# Altium footprint library MainLib.pcblib: 23 footprints (part 2 of 2)
Each footprint in its own frame and in the unit in brackets; x right, y up, seen from the top. Pads: shape width x height; smd on the part's side, far side on the other; paste and mask are expansions set on the pad; w line width, h text height; cw(c..) or ccw(c..) is an arc to the next point about the centre after c.
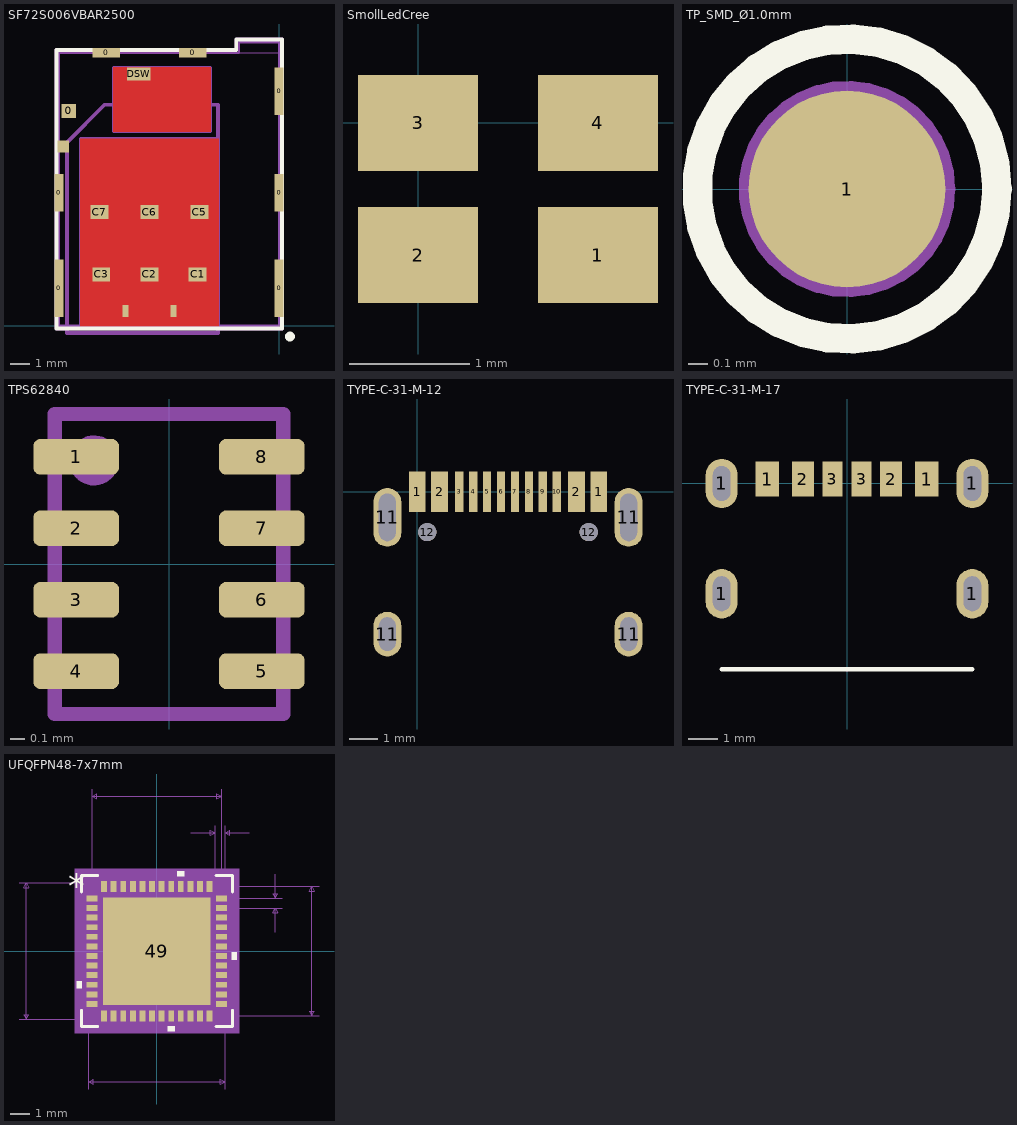
[diagram p1: the footprints below, top view; thin cyan lines are the x and y axes]

## SF72S006VBAR2500 [mm]
pads (18):
  rect 0.45x2.9 smd: 0(-11.175,1.9) 0(0,1.9)
  rect 0.45x1.9 smd: 0(-11.175,6.75) 0(0,6.75)
  rect 0.75x0.7 smd: 0(-10.675,10.9)
  rect 1.4x0.5 smd: 0(-8.78,13.85) 0(-4.38,13.85)
  rect 0.3x0.6 smd: 0(-7.8,0.75) 0(-5.36,0.75)
  rect 0.45x2.4 smd: 0(0,11.9)
  rect 0.9x0.7 smd: C1(-4.14,2.6) C2(-6.58,2.6) C3(-9.02,2.6) C5(-4.04,5.77) C6(-6.58,5.77) C7(-9.12,5.77)
  rect 0.6x0.6 smd: CSW(-10.95,9.1)
  rect 1.2x0.65 smd: DSW(-7.13,12.775)
Top Layer:
  pour cut-out: -10.084,9.5 -3.073,9.5 -3.073,-0.025 -10.084,-0.025
  pour cut-out: -8.407,13.106 -3.48,13.106 -3.48,9.855 -8.407,9.855
Top Overlay:
  lines w0.2: -11.3,-0.15 -11.3,14 -2.175,14 -2.175,14.525 0.15,14.525 0.15,-0.15 -11.3,-0.15
  lines w0.25: 0.443,-0.486 ccw(c0.55,-0.55) 0.462,-0.462
Mechanical 7:
  lines w0.2: -3.124,11.214 -8.852,11.214 -10.77,9.296 -10.77,-0.381 -3.099,-0.381 -3.099,11.214 ; -11.3,-0.15 0.15,-0.15 0.15,14.525 -2.175,14.525 -2.175,14 -11.3,14 -11.3,-0.15
  text ".Designator" at -10.414,12.192 h1.02
Mechanical 13:
  lines w0.1: -11.175,0 -11.175,13.85 -2.025,13.85 -2.025,14.375 0,14.375 0,0 -11.175,0
Mechanical 15:
  lines w0.05: -11.175,0 -11.175,13.85 0,13.85 0,0 -11.175,0
  lines w0.15: -5.16,0 -10.08,0 -10.08,9.5 -3.08,9.5 -3.08,0 ; -8.4,9.85 -3.48,9.85 -3.48,13.1 -8.4,13.1 -8.4,9.85
  text "NO TRACE" at -9.652,6.604 h0.8
  text "NO TRACE" at -8.89,10.668 h0.8
  text "NO VIA" at -8.93,7.84 h0.8
  text "NO VIA" at -8.128,11.938 h0.8
3D body "K3D-SF72S006VBA-V2_JAE_Proprietary.STEP": height 1.25, standoff 0, extent -11.2,0.05 0.02,14.4

## SmollLedCree [mm] "CLMVC-FKA"
pads (4):
  rect 1x0.8 smd: 1(1.5,-1.1) 2(0,-1.1) 3(0,0) 4(1.5,0)
3D body "CLMVC-FKA-CL1D1L71BB7C3C3--3DModel-STEP-56544.STEP": height 1, standoff 0, extent -0.25,-1.55 1.75,0.45

## TP_SMD_Ø1.0mm [mm]
pads (1):
  round 1 smd paste-5: 1(0,0)
Top Overlay:
  circle w0.15: c0,0 r0.762
Mechanical 7:
  circle w0.1: c0,0 r0.762
  circle w0.1: c0,0 r0.5
  text ".Designator" at -0.633,0.918 h0.38

## TPS62840 [mm]
pads (8):
  rrect40% 0.6x0.25 smd: 1(-0.65,0.75) 2(-0.65,0.25) 3(-0.65,-0.25) 4(-0.65,-0.75) 5(0.65,-0.75) 6(0.65,-0.25) 7(0.65,0.25) 8(0.65,0.75)
Mechanical 5:
  circle w0.1: c-0.525,0.725 r0.125
  lines w0.1: -0.8,-1.05 -0.8,1.05 0.8,1.05 0.8,-1.05 -0.8,-1.05
3D body "DLC0008B.stp": height 1, standoff 0, extent -0.75,-1 0.75,1

## TYPE-C-31-M-12 [mm]
pads (18):
  rect 0.6x1.45 smd: 1(0,0) 1(6.5,0) 2(0.8,0) 2(5.7,0)
  rect 0.3x1.45 smd: 3(1.5,0) 4(2,0) 5(2.5,0) 6(3,0) 7(3.5,0) 8(4,0) 9(4.5,0) 10(5,0)
  oval 1x1.6 hole 1.2 slot 0.6 at 0 deg: 11(-1.07,-5.095) 11(7.57,-5.095)
  oval 1x2.1 hole 1.7 slot 0.6 at 0 deg: 11(-1.07,-0.915) 11(7.57,-0.915)
  round 0.65 hole 0.65: 12(0.36,-1.445) 12(6.14,-1.445)
3D body "USB - C.step": height 3.27, standoff -0.99, extent -1.275,-7.75 7.675,0

## TYPE-C-31-M-17 [mm]
pads (10):
  oval 1.1x1.7 hole 1.2 slot 0.6 at 0 deg: 1(-4.32,-3.8) 1(-4.32,0) 1(4.32,-3.8) 1(4.32,0)
  rect 0.8x1.2 smd: 1(-2.75,0.15) 1(2.75,0.15)
  rect 0.76x1.2 smd: 2(-1.52,0.15) 2(1.52,0.15)
  rect 0.7x1.2 smd: 3(-0.5,0.15) 3(0.5,0.15)
Top Overlay:
  lines w0.15: -4.32,-6.4 4.32,-6.4

## UFQFPN48-7x7mm [mil]
pads (49):
  rect 22x12 smd: 1(-132.87,108.3) 2(-132.87,88.61) 3(-132.87,68.92) 4(-132.87,49.23) 5(-132.87,29.54) 6(-132.87,9.85) 7(-132.87,-9.85) 8(-132.87,-29.54) 9(-132.87,-49.23) 10(-132.87,-68.92) 11(-132.87,-88.61) 12(-132.87,-108.3) 25(132.87,-108.3) 26(132.87,-88.61) 27(132.87,-68.92) 28(132.87,-49.23) 29(132.87,-29.54) 30(132.87,-9.85) 31(132.87,9.85) 32(132.87,29.54) 33(132.87,49.23) 34(132.87,68.92) 35(132.87,88.61) 36(132.87,108.3)
  rect 12x22 smd: 13(-108.3,-132.87) 14(-88.61,-132.87) 15(-68.92,-132.87) 16(-49.23,-132.87) 17(-29.54,-132.87) 18(-9.85,-132.87) 19(9.85,-132.87) 20(29.54,-132.87) 21(49.23,-132.87) 22(68.92,-132.87) 23(88.61,-132.87) 24(108.3,-132.87) 37(108.3,132.87) 38(88.61,132.87) 39(68.92,132.87) 40(49.23,132.87) 41(29.54,132.87) 42(9.85,132.87) 43(-9.85,132.87) 44(-29.54,132.87) 45(-49.23,132.87) 46(-68.92,132.87) 47(-88.61,132.87) 48(-108.3,132.87)
  rect 220x220 smd paste-110: 49(0,0)
Top Overlay:
  region: -153.87,-61.41 -163.87,-61.41 -163.87,-76.42 -153.87,-76.42
  region: 37.03,-153.87 22.04,-153.87 22.04,-163.87 37.03,-163.87
  region: 153.87,-2.35 163.87,-2.35 163.87,-17.34 153.87,-17.34
  region: 56.73,153.87 41.73,153.87 41.73,163.87 56.73,163.87
  lines w6: -155,-121.21 -155,-155 -121.21,-155 ; -155,121.21 -155,155 -121.21,155 ; 121.21,-155 155,-155 155,-121.21 ; 121.21,155 155,155 155,121.21
  text "*" at -181.37,108.14 h50
Top Paste:
  drawing of 64 lines, arcs and shapes, not listed
Top Solder:
  drawing of 48 lines, arcs and shapes, not listed
Mechanical 5:
  region: 168.87,-168.87 -168.87,-168.87 -168.87,168.87 168.87,168.87
Mechanical 7:
  lines w1: -282.87,-140 140,-140 ; -282.87,140 140,140 140,-282.87 ; -140,-282.87 -140,140 ; -132.87,108.3 -132.87,332.87 ; 70,242.87 120,242.87 ; 108.3,-132.87 332.87,-132.87 ; 108.3,132.87 332.87,132.87 ; 120,108.3 120,257.87 ; 132.87,88.61 257.87,88.61 ; 132.87,332.87 132.87,108.3 257.87,108.3 ; 140,108.3 140,257.87 ; 190,242.87 140,242.87 ; 242.87,38.6 242.87,88.61 ; 242.87,158.29 242.87,108.3 ; -267.87,-140 -267.87,140 ; -267.87,-140 -272.87,-130 -262.87,-130 -267.87,-140 ; -267.87,140 -272.87,130 -262.87,130 -267.87,140 ; -140,-267.87 140,-267.87 ; -140,-267.87 -130,-262.87 -130,-272.87 -140,-267.87 ; -132.87,317.87 132.87,317.87 ; -132.87,317.87 -122.87,322.87 -122.87,312.87 -132.87,317.87 ; 120,242.87 110,247.87 110,237.87 120,242.87 ; 132.87,317.87 122.87,322.87 122.87,312.87 132.87,317.87 ; 140,-267.87 130,-262.87 130,-272.87 140,-267.87 ; 140,242.87 150,247.87 150,237.87 140,242.87 ; 242.87,88.61 237.87,78.61 247.87,78.61 242.87,88.61 ; 242.87,108.3 237.87,118.3 247.87,118.3 242.87,108.3 ; 317.87,-132.87 317.87,132.87 ; 317.87,-132.87 312.87,-122.87 322.87,-122.87 317.87,-132.87 ; 317.87,132.87 312.87,122.87 322.87,122.87 317.87,132.87
  text "Default Padstyle: RX12Y22D0T" at -350,-392.87 h50
  text "Heat Tab Padstyle: RX220Y220D0T" at -387.5,-452.87 h50
  text "Alt 1 Padstyle: OX60Y90D30P" at -337.5,-572.87 h50
  text "Alt 2 Padstyle: OX90Y60D30P" at -337.5,-632.87 h50
  text "0.02in/0.5mm" at 262.87,85.95 h25
  text "0.02in/0.508mm" at 42.5,262.87 h25
  text "0.266in/6.75mm" at -87.5,337.87 h25
  text "0.266in/6.75mm" at 337.87,-12.5 h25
  text "0.28in/7.112mm" at -462.87,-12.5 h25
  text "0.28in/7.112mm" at -87.5,-312.87 h25
Mechanical 13:
  lines w1: -140,90 -90,140 ; -140,-140 140,-140 140,140 -140,140 -140,-140 ; -140,-114.3 -140,-102.3 -140,-114.3 ; -140,-94.61 -140,-82.61 -140,-94.61 ; -140,-74.92 -140,-62.91 -140,-74.92 ; -140,-55.23 -140,-43.23 -140,-55.23 ; -140,-35.53 -140,-23.54 -140,-35.53 ; -140,-15.85 -140,-3.85 -140,-15.85 ; -140,3.85 -140,15.85 -140,3.85 ; -140,23.54 -140,35.53 -140,23.54 ; -140,43.23 -140,55.23 -140,43.23 ; -140,62.91 -140,74.92 -140,62.91 ; -140,82.61 -140,94.61 -140,82.61 ; -140,102.3 -140,114.3 -140,102.3 ; -114.3,-140 -102.3,-140 -114.3,-140 ; -114.3,140 -102.3,140 -114.3,140 ; -94.61,-140 -82.61,-140 -94.61,-140 ; -94.61,140 -82.61,140 -94.61,140 ; -74.92,-140 -62.91,-140 -74.92,-140 ; -74.92,140 -62.91,140 -74.92,140 ; -55.23,-140 -43.23,-140 -55.23,-140 ; -55.23,140 -43.23,140 -55.23,140 ; -35.53,-140 -23.54,-140 -35.53,-140 ; -35.53,140 -23.54,140 -35.53,140 ; -15.85,-140 -3.85,-140 -15.85,-140 ; -15.85,140 -3.85,140 -15.85,140 ; 3.85,-140 15.85,-140 3.85,-140 ; 3.85,140 15.85,140 3.85,140 ; 23.54,-140 35.53,-140 23.54,-140 ; 23.54,140 35.53,140 23.54,140 ; 43.23,-140 55.23,-140 43.23,-140 ; 43.23,140 55.23,140 43.23,140 ; 62.91,-140 74.92,-140 62.91,-140 ; 62.91,140 74.92,140 62.91,140 ; 82.61,-140 94.61,-140 82.61,-140 ; 82.61,140 94.61,140 82.61,140 ; 102.3,-140 114.3,-140 102.3,-140 ; 102.3,140 114.3,140 102.3,140 ; 140,-114.3 140,-102.3 140,-114.3 ; 140,-94.61 140,-82.61 140,-94.61 ; 140,-74.92 140,-62.91 140,-74.92 ; 140,-55.23 140,-43.23 140,-55.23 ; 140,-35.53 140,-23.54 140,-35.53 ; 140,-15.85 140,-3.85 140,-15.85 ; 140,3.85 140,15.85 140,3.85 ; 140,23.54 140,35.53 140,23.54 ; 140,43.23 140,55.23 140,43.23 ; 140,62.91 140,74.92 140,62.91 ; 140,82.61 140,94.61 140,82.61 ; 140,102.3 140,114.3 140,102.3
  text "*" at -124.37,93.14 h50
Mechanical 15:
  region: -128.29,-150 -150,-150 -150,-128.29 -148.87,-128.29 -148.87,128.29 -150,128.29 -150,150 -128.29,150 -128.29,148.87 128.29,148.87 128.29,150 150,150 150,128.29 148.87,128.29 148.87,-128.29 150,-128.29 150,-150 128.29,-150 128.29,-148.87 -128.29,-148.87
  lines w6: -150,-150 -150,-128.29 -148.87,-128.29 -148.87,128.29 -150,128.29 -150,150 -128.29,150 -128.29,148.87 128.29,148.87 128.29,150 150,150 150,128.29 148.87,128.29 148.87,-128.29 150,-128.29 150,-150 128.29,-150 128.29,-148.87 -128.29,-148.87 -128.29,-150 -150,-150
3D body: height 10, standoff 0, extent 0,0 10,10
3D body "User Library-QFN48-2.step": height 35.43, standoff 0, extent -138.78,-138.78 138.78,138.78